# Altium footprint library XCVR_ESP32-S3-MINI-1U-N8.PcbLib: 1 footprints
Each footprint in its own frame and in the unit in brackets; x right, y up, seen from the top. Pads: shape width x height; smd on the part's side, far side on the other; paste and mask are expansions set on the pad; w line width, h text height; cw(c..) or ccw(c..) is an arc to the next point about the centre after c.
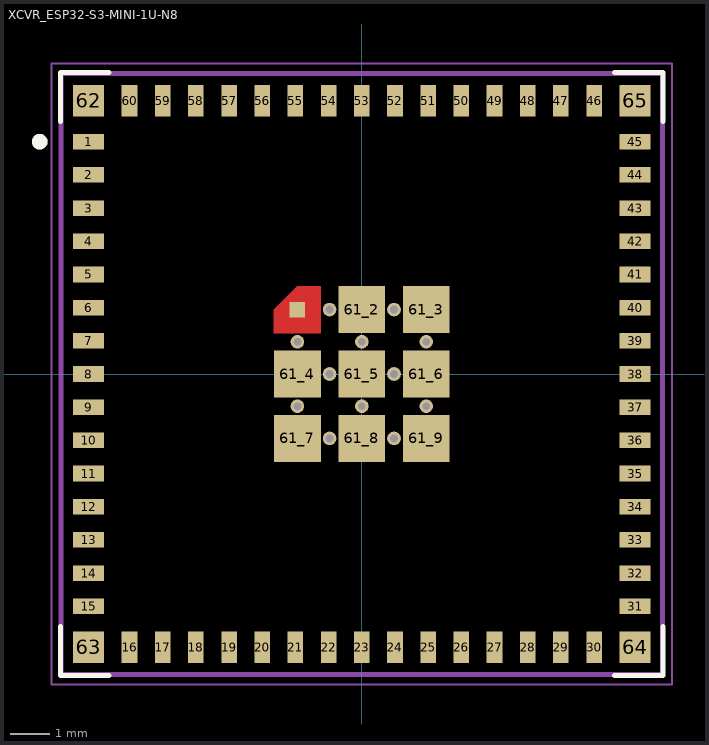
[diagram p0: the footprint, top view; thin cyan lines are the x and y axes]

## XCVR_ESP32-S3-MINI-1U-N8 [mm]
height 2.55
pads (85):
  rect 0.8x0.4 smd: 1(-7,5.95) 2(-7,5.1) 3(-7,4.25) 4(-7,3.4) 5(-7,2.55) 6(-7,1.7) 7(-7,0.85) 8(-7,0) 9(-7,-0.85) 10(-7,-1.7) 11(-7,-2.55) 12(-7,-3.4) 13(-7,-4.25) 14(-7,-5.1) 15(-7,-5.95) 31(7,-5.95) 32(7,-5.1) 33(7,-4.25) 34(7,-3.4) 35(7,-2.55) 36(7,-1.7) 37(7,-0.85) 38(7,0) 39(7,0.85) 40(7,1.7) 41(7,2.55) 42(7,3.4) 43(7,4.25) 44(7,5.1) 45(7,5.95)
  rect 0.4x0.8 smd: 16(-5.95,-7) 17(-5.1,-7) 18(-4.25,-7) 19(-3.4,-7) 20(-2.55,-7) 21(-1.7,-7) 22(-0.85,-7) 23(0,-7) 24(0.85,-7) 25(1.7,-7) 26(2.55,-7) 27(3.4,-7) 28(4.25,-7) 29(5.1,-7) 30(5.95,-7) 46(5.95,7) 47(5.1,7) 48(4.25,7) 49(3.4,7) 50(2.55,7) 51(1.7,7) 52(0.85,7) 53(0,7) 54(-0.85,7) 55(-1.7,7) 56(-2.55,7) 57(-3.4,7) 58(-4.25,7) 59(-5.1,7) 60(-5.95,7)
  rect 0.4x0.4 smd paste-1 mask+0: 61_1(-1.65,1.65)
  rect 1.2x1.2 smd: 61_2(0,1.65) 61_3(1.65,1.65) 61_4(-1.65,0) 61_5(0,0) 61_6(1.65,0) 61_7(-1.65,-1.65) 61_8(0,-1.65) 61_9(1.65,-1.65)
  rect 0.8x0.8 smd: 62(-7,7) 63(-7,-7) 64(7,-7) 65(7,7)
  round 0.35 hole 0.2 mask+0: 66_1(-0.825,1.65) 66_2(0.825,1.65) 66_3(-1.65,0.825) 66_4(0,0.825) 66_5(1.65,0.825) 66_6(-0.825,0) 66_7(0.825,0) 66_8(-1.65,-0.825) 66_9(0,-0.825) 66_10(1.65,-0.825) 66_11(-0.825,-1.65) 66_12(0.825,-1.65)
Top Layer:
  region: -1.05,1.05 -2.25,1.05 -2.25,1.65 -1.65,2.25 -1.05,2.25
Top Overlay:
  circle w0.2: c-8.25,5.95 r0.1
  lines w0.127: -7.72,-6.47 -7.72,-7.72 -6.47,-7.72 ; -7.72,6.47 -7.72,7.72 -6.47,7.72 ; 6.47,-7.72 7.72,-7.72 7.72,-6.47 ; 6.47,7.72 7.72,7.72 7.72,6.47
Top Paste:
  region: -1.05,1.05 -2.25,1.05 -2.25,1.65 -1.65,2.25 -1.05,2.25
Top Solder:
  region: -0.95,0.95 -2.35,0.95 -2.35,1.7 -1.7,2.35 -0.95,2.35
Mechanical 13:
  circle w0.2: c-8.25,5.95 r0.1
  lines w0.127: -7.7,-7.7 7.7,-7.7 7.7,7.7 -7.7,7.7 -7.7,-7.7
Mechanical 15:
  lines w0.05: -7.95,-7.95 -7.95,7.95 7.95,7.95 7.95,-7.95 -7.95,-7.95
3D body "step_temp.STEP": height 2.55, standoff 0, extent -7.7,-7.7 7.7,7.7